# Altium footprint library BV100011_UniversalSlave.PcbLib: 72 footprints (part 3 of 5)
Each footprint in its own frame and in the unit in brackets; x right, y up, seen from the top. Pads: shape width x height; smd on the part's side, far side on the other; paste and mask are expansions set on the pad; w line width, h text height; cw(c..) or ccw(c..) is an arc to the next point about the centre after c.
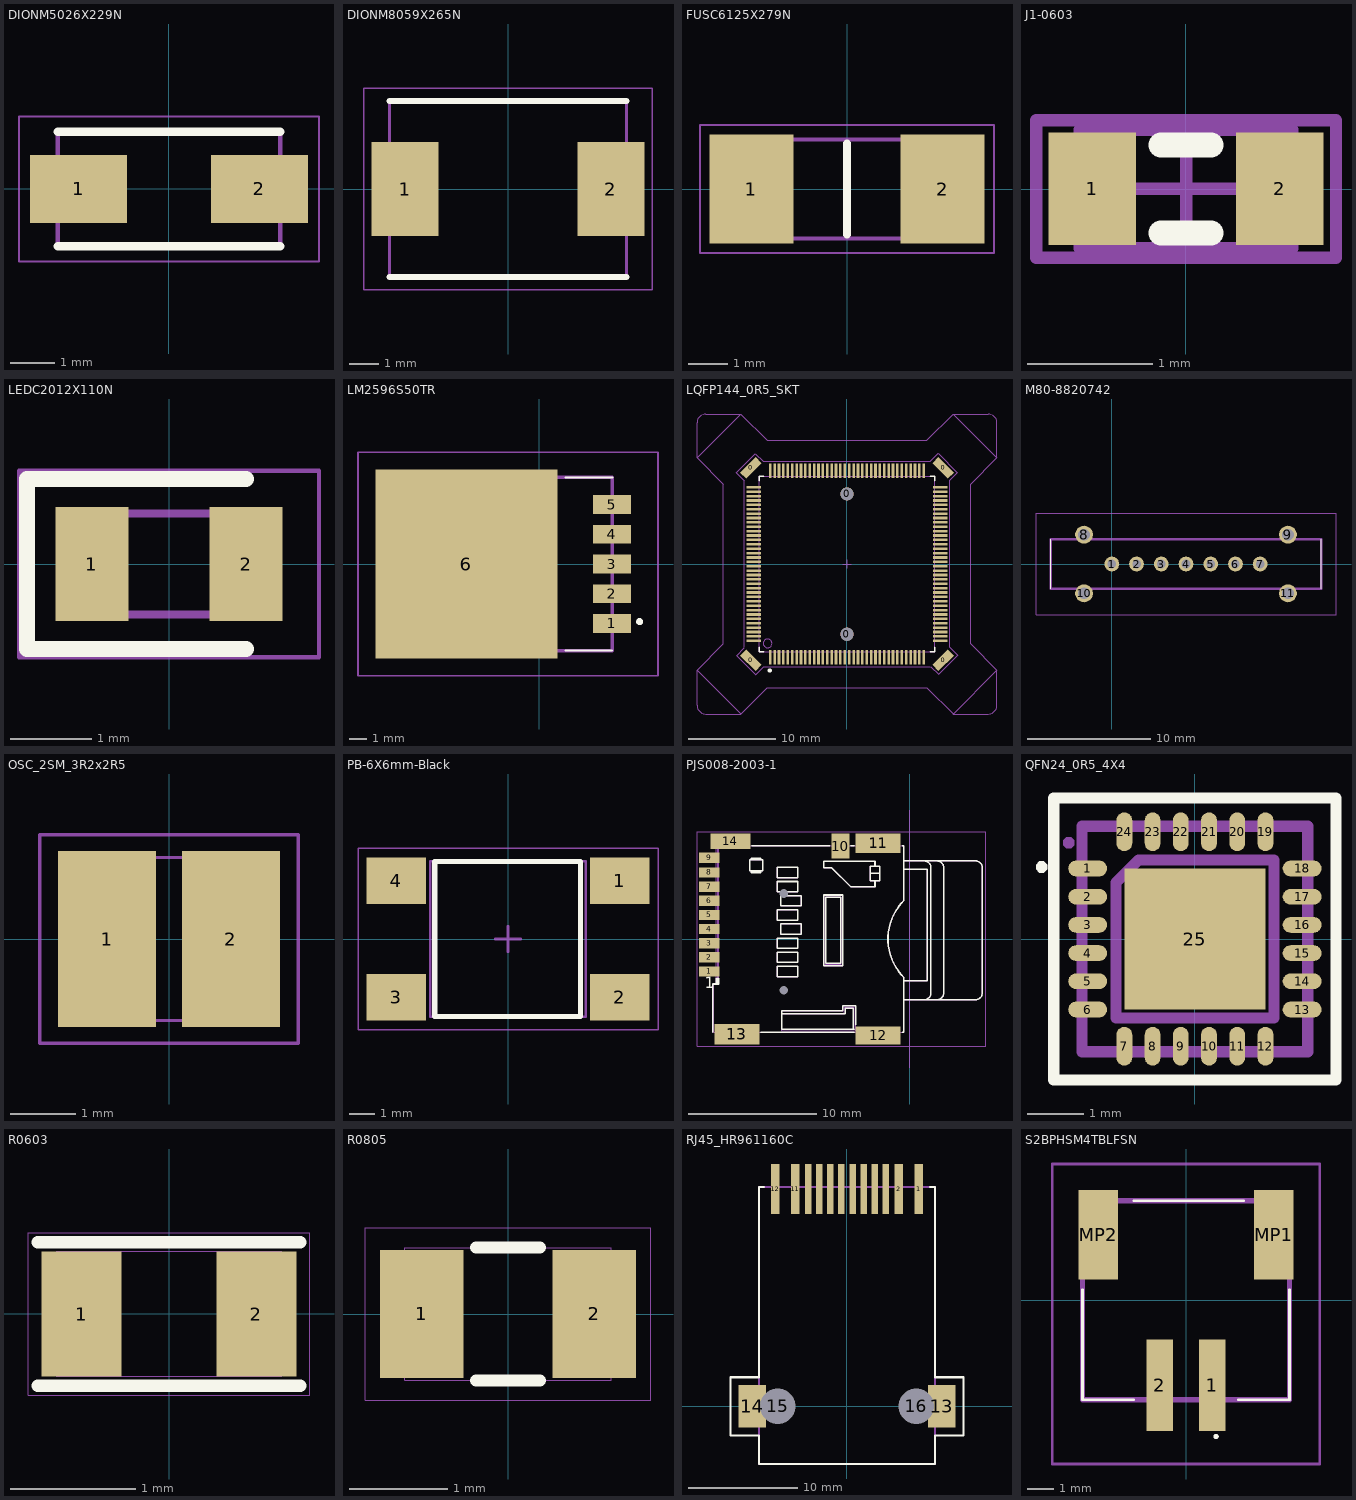
[diagram p2: the footprints below, top view; thin cyan lines are the x and y axes]

## DIONM5026X229N [mm]
pads (2):
  rect 2.2x1.55 smd: 1(-2.05,0) 2(2.05,0)
Top Overlay:
  lines w0.2: -2.52,-1.298 2.52,-1.298 ; -2.52,1.298 2.52,1.298
Mechanical 13:
  lines w0.1: -2.52,-1.298 2.52,-1.298 2.52,1.298 -2.52,1.298 -2.52,-1.298
Mechanical 15:
  lines w0.05: -3.4,-1.645 3.4,-1.645 3.4,1.645 -3.4,1.645 -3.4,-1.645
3D body "SMAJ24CA.stp": height 2.29, standoff 0, extent -2.52,-1.298 2.52,1.298

## DIONM8059X265N [mm]
pads (2):
  rect 2.25x3.15 smd: 1(-3.45,0) 2(3.45,0)
Top Overlay:
  lines w0.2: -3.975,-2.95 3.975,-2.95 ; -3.975,2.95 3.975,2.95
Mechanical 13:
  lines w0.1: -3.975,-2.95 -3.975,2.95 3.975,2.95 3.975,-2.95 -3.975,-2.95
Mechanical 15:
  lines w0.05: -4.825,-3.375 -4.825,3.375 4.825,3.375 4.825,-3.375 -4.825,-3.375
3D body "SM15T33CA.stp": height 2.65, standoff 0, extent -3.975,-2.95 3.975,2.95

## FUSC6125X279N [mm]
pads (2):
  rect 2.15x2.8 smd: 1(-2.455,0) 2(2.455,0)
Top Overlay:
  lines w0.2: 0,-1.17 0,1.17
Mechanical 13:
  lines w0.1: -3.05,-1.27 -3.05,1.27 3.05,1.27 3.05,-1.27 -3.05,-1.27
Mechanical 15:
  lines w0.05: -3.78,-1.65 -3.78,1.65 3.78,1.65 3.78,-1.65 -3.78,-1.65
3D body "0680L0750-05.stp": height 2.79, standoff 0, extent -3.05,-1.27 3.05,1.27

## J1-0603 [mm]
pads (2):
  rect 0.7x0.9 smd: 1(-0.75,0) 2(0.75,0)
Top Overlay:
  lines w0.2: -0.2,-0.35 0.2,-0.35 ; -0.2,0.35 0.2,0.35
Mechanical 13:
  lines w0.1: -0.85,-0.475 -0.85,0.475 0.85,0.475 0.85,-0.475 -0.85,-0.475
Mechanical 15:
  lines w0.1: -0.475,0 0.475,0 ; 0,-0.475 0,0.475 ; -1.2,-0.55 -1.2,0.55 1.2,0.55 1.2,-0.55 -1.2,-0.55
3D body: height 0.9, standoff 0, extent -0.85,-0.475 0.85,0.475

## LEDC2012X110N [mm]
pads (2):
  rect 0.9x1.4 smd: 1(-0.95,0) 2(0.95,0)
Top Overlay:
  lines w0.2: 0.95,-1.05 -1.75,-1.05 -1.75,1.05 0.95,1.05
Mechanical 13:
  lines w0.1: -1,0.208 -0.583,0.625 ; -1,-0.625 -1,0.625 1,0.625 1,-0.625 -1,-0.625
Mechanical 15:
  lines w0.05: -1.85,-1.15 -1.85,1.15 1.85,1.15 1.85,-1.15 -1.85,-1.15

## LM2596S50TR [mm]
pads (6):
  rect 2.16x1.07 smd: 1(4.162,-3.4) 2(4.162,-1.7) 3(4.162,0) 4(4.162,1.7) 5(4.162,3.4)
  rect 10.41x10.8 smd: 6(-4.162,0)
Top Overlay:
  lines w0.1: 1.5,-4.955 4.162,-4.955 ; 1.5,4.955 4.2,4.955
  lines w0.3: 5.7,-3.3 cw(c5.75,-3.3) 5.8,-3.3 cw(c5.75,-3.3) 5.7,-3.3
Mechanical 13:
  lines w0.2: -4.19,-4.955 -4.19,4.955 4.19,4.955 4.19,-4.955 -4.19,-4.955
Mechanical 15:
  lines w0.1: -10.367,-6.4 -10.367,6.4 6.8,6.4 6.8,-6.4 -10.367,-6.4
3D body "LM2596S-5.0_TR.stp": height 4.75, standoff 0, extent -8.326,-4.955 5.135,4.955

## LQFP144_0R5_SKT [mm]
pads (150):
  rect 1x2.5 smd rot 45: 0(-10.96,-10.96) 0(10.96,10.96)
  rect 1x2.5 smd rot 135: 0(-10.96,10.96) 0(10.96,-10.96)
  round 1.5 hole 1.5 unplated: 0(0,-8) 0(0,8)
  rect 0.3x1.65 smd: 1(-8.75,-10.625) 2(-8.25,-10.625) 3(-7.75,-10.625) 4(-7.25,-10.625) 5(-6.75,-10.625) 6(-6.25,-10.625) 7(-5.75,-10.625) 8(-5.25,-10.625) 9(-4.75,-10.625) 10(-4.25,-10.625) 11(-3.75,-10.625) 12(-3.25,-10.625) 13(-2.75,-10.625) 14(-2.25,-10.625) 15(-1.75,-10.625) 16(-1.25,-10.625) 17(-0.75,-10.625) 18(-0.25,-10.625) 19(0.25,-10.625) 20(0.75,-10.625) 21(1.25,-10.625) 22(1.75,-10.625) 23(2.25,-10.625) 24(2.75,-10.625) 25(3.25,-10.625) 26(3.75,-10.625) 27(4.25,-10.625) 28(4.75,-10.625) 29(5.25,-10.625) 30(5.75,-10.625) 31(6.25,-10.625) 32(6.75,-10.625) 33(7.25,-10.625) 34(7.75,-10.625) 35(8.25,-10.625) 36(8.75,-10.625) 73(8.75,10.625) 74(8.25,10.625) 75(7.75,10.625) 76(7.25,10.625) 77(6.75,10.625) 78(6.25,10.625) 79(5.75,10.625) 80(5.25,10.625) 81(4.75,10.625) 82(4.25,10.625) 83(3.75,10.625) 84(3.25,10.625) 85(2.75,10.625) 86(2.25,10.625) 87(1.75,10.625) 88(1.25,10.625) 89(0.75,10.625) 90(0.25,10.625) 91(-0.25,10.625) 92(-0.75,10.625) 93(-1.25,10.625) 94(-1.75,10.625) 95(-2.25,10.625) 96(-2.75,10.625) 97(-3.25,10.625) 98(-3.75,10.625) 99(-4.25,10.625) 100(-4.75,10.625) 101(-5.25,10.625) 102(-5.75,10.625) 103(-6.25,10.625) 104(-6.75,10.625) 105(-7.25,10.625) 106(-7.75,10.625) 107(-8.25,10.625) 108(-8.75,10.625)
  rect 1.65x0.3 smd: 37(10.625,-8.75) 38(10.625,-8.25) 39(10.625,-7.75) 40(10.625,-7.25) 41(10.625,-6.75) 42(10.625,-6.25) 43(10.625,-5.75) 44(10.625,-5.25) 45(10.625,-4.75) 46(10.625,-4.25) 47(10.625,-3.75) 48(10.625,-3.25) 49(10.625,-2.75) 50(10.625,-2.25) 51(10.625,-1.75) 52(10.625,-1.25) 53(10.625,-0.75) 54(10.625,-0.25) 55(10.625,0.25) 56(10.625,0.75) 57(10.625,1.25) 58(10.625,1.75) 59(10.625,2.25) 60(10.625,2.75) 61(10.625,3.25) 62(10.625,3.75) 63(10.625,4.25) 64(10.625,4.75) 65(10.625,5.25) 66(10.625,5.75) 67(10.625,6.25) 68(10.625,6.75) 69(10.625,7.25) 70(10.625,7.75) 71(10.625,8.25) 72(10.625,8.75) 109(-10.625,8.75) 110(-10.625,8.25) 111(-10.625,7.75) 112(-10.625,7.25) 113(-10.625,6.75) 114(-10.625,6.25) 115(-10.625,5.75) 116(-10.625,5.25) 117(-10.625,4.75) 118(-10.625,4.25) 119(-10.625,3.75) 120(-10.625,3.25) 121(-10.625,2.75) 122(-10.625,2.25) 123(-10.625,1.75) 124(-10.625,1.25) 125(-10.625,0.75) 126(-10.625,0.25) 127(-10.625,-0.25) 128(-10.625,-0.75) 129(-10.625,-1.25) 130(-10.625,-1.75) 131(-10.625,-2.25) 132(-10.625,-2.75) 133(-10.625,-3.25) 134(-10.625,-3.75) 135(-10.625,-4.25) 136(-10.625,-4.75) 137(-10.625,-5.25) 138(-10.625,-5.75) 139(-10.625,-6.25) 140(-10.625,-6.75) 141(-10.625,-7.25) 142(-10.625,-7.75) 143(-10.625,-8.25) 144(-10.625,-8.75)
Top Overlay:
  circle w0.25: c-8.812,-12.141 r0.125
  lines w0.2: -10,-9.5 -10,-10 -9.5,-10 ; -10,9.5 -10,10 -9.5,10 ; 9.5,-10 10,-10 10,-9.5 ; 9.5,10 10,10 10,9.5
Mechanical 13:
  circle w0.1: c-9.05,-9.05 r0.5
  lines w0.1: -10,-10 -10,10 10,10 10,-10 -10,-10
  lines w0.127: -17.1,-12.1 -17.1,-16.1 ccw(c-16.1,-16.1) -16.1,-17.1 -12.1,-17.1 ; -16.1,17.1 ccw(c-16.1,16.1) -17.1,16.1 -17.1,12.1 ; -16.1,17.109 -12.1,17.109 -17.1,12.109 -17.1,12.1 ; -14.1,-9.1 -14.1,9.1 -17.1,12.1 ; -14.096,-9.092 -17.096,-12.092 -12.096,-17.092 ; -12.092,17.104 -9.092,14.104 ; -9.1,14.109 9.1,14.109 12.1,17.109 ; 9.092,-14.096 12.092,-17.096 ; 9.1,-14.1 -9.1,-14.1 -12.1,-17.1 ; 12.096,17.092 17.096,12.092 14.096,9.092 ; 14.1,9.1 14.1,-9.1 17.1,-12.1 ; 16.1,17.1 cw(c16.1,16.1) 17.1,16.1 17.1,12.1 ; 16.1,17.109 12.1,17.109 ; -17.1,12.1 -17.1,12.1 ; -12.1,-17.1 -12.1,-17.1 ; 12.1,17.109 12.1,17.109 ; 17.1,-12.1 17.1,-16.1 cw(c16.1,-16.1) 16.1,-17.1 12.1,-17.1 17.1,-12.1 ; 17.1,-12.1 17.1,-12.1
Mechanical 15:
  lines w0.1: -11.7,-9.541 -12.596,-10.437 -10.422,-12.611 -9.511,-11.7 ; -11.7,-9.5 -11.7,9.5 ; -11.7,9.511 -12.611,10.422 -10.437,12.596 -9.541,11.7 ; -9.5,-11.7 9.5,-11.7 ; -9.5,11.7 9.5,11.7 ; -0.5,0 0.5,0 ; 0,-0.5 0,0.5 ; 9.511,11.7 10.422,12.611 12.596,10.437 11.7,9.541 ; 9.541,-11.7 10.437,-12.596 12.611,-10.422 11.7,-9.511 ; 11.7,-9.5 11.7,9.5
3D body: height 7, standoff 0, extent 10.269,-8.852 10.371,-8.648
3D body: height 0.1, standoff 0, extent 10.371,-8.852 10.93,-8.648
3D body: height 0.1, standoff 0, extent 10.371,-8.352 10.93,-8.148
3D body: height 7, standoff 0, extent 10.269,-8.352 10.371,-8.148
3D body: height 0.1, standoff 0, extent 10.371,-7.852 10.93,-7.648
3D body: height 7, standoff 0, extent 10.269,-7.852 10.371,-7.648
3D body: height 0.1, standoff 0, extent 10.371,-7.352 10.93,-7.148
3D body: height 7, standoff 0, extent 10.269,-7.352 10.371,-7.148
3D body: height 0.1, standoff 0, extent 10.371,-6.852 10.93,-6.648
3D body: height 7, standoff 0, extent 10.269,-6.852 10.371,-6.648
3D body: height 0.1, standoff 0, extent 10.371,-6.352 10.93,-6.148
3D body: height 7, standoff 0, extent 10.269,-6.352 10.371,-6.148
3D body: height 0.1, standoff 0, extent 10.371,-6.352 10.93,-6.148
3D body: height 7, standoff 0, extent 10.269,-6.352 10.371,-6.148
3D body: height 0.1, standoff 0, extent 10.371,-5.852 10.93,-5.648
3D body: height 7, standoff 0, extent 10.269,-5.852 10.371,-5.648
3D body: height 0.1, standoff 0, extent 10.371,-5.352 10.93,-5.148
3D body: height 7, standoff 0, extent 10.269,-5.352 10.371,-5.148
3D body: height 0.1, standoff 0, extent 10.371,-4.852 10.93,-4.648
3D body: height 7, standoff 0, extent 10.269,-4.852 10.371,-4.648
3D body: height 0.1, standoff 0, extent 10.371,-4.352 10.93,-4.148
3D body: height 7, standoff 0, extent 10.269,-4.352 10.371,-4.148
3D body: height 0.1, standoff 0, extent 10.371,-3.852 10.93,-3.648
3D body: height 7, standoff 0, extent 10.269,-3.852 10.371,-3.648
3D body: height 0.1, standoff 0, extent 10.371,-3.352 10.93,-3.148
3D body: height 7, standoff 0, extent 10.269,-3.352 10.371,-3.148
3D body: height 0.1, standoff 0, extent 10.371,-2.852 10.93,-2.648
3D body: height 7, standoff 0, extent 10.269,-2.852 10.371,-2.648
3D body: height 0.1, standoff 0, extent 10.371,-2.352 10.93,-2.148
3D body: height 7, standoff 0, extent 10.269,-2.352 10.371,-2.148
3D body: height 0.1, standoff 0, extent 10.371,-1.852 10.93,-1.648
3D body: height 7, standoff 0, extent 10.269,-1.852 10.371,-1.648
3D body: height 0.1, standoff 0, extent 10.371,-1.352 10.93,-1.148
3D body: height 7, standoff 0, extent 10.269,-1.352 10.371,-1.148
3D body: height 0.1, standoff 0, extent 10.371,-0.852 10.93,-0.648
3D body: height 7, standoff 0, extent 10.269,-0.852 10.371,-0.648
3D body: height 0.1, standoff 0, extent 10.371,-0.352 10.93,-0.148
3D body: height 7, standoff 0, extent 10.269,-0.352 10.371,-0.148
3D body: height 0.1, standoff 0, extent 10.371,0.148 10.93,0.352
3D body: height 7, standoff 0, extent 10.269,0.148 10.371,0.352
3D body: height 0.1, standoff 0, extent 10.371,0.648 10.93,0.852
3D body: height 7, standoff 0, extent 10.269,0.648 10.371,0.852
3D body: height 0.1, standoff 0, extent 10.371,1.148 10.93,1.352
3D body: height 7, standoff 0, extent 10.269,1.148 10.371,1.352
3D body: height 0.1, standoff 0, extent 10.371,1.648 10.93,1.852
3D body: height 7, standoff 0, extent 10.269,1.648 10.371,1.852
3D body: height 0.1, standoff 0, extent 10.371,2.148 10.93,2.352
3D body: height 7, standoff 0, extent 10.269,2.148 10.371,2.352
3D body: height 0.1, standoff 0, extent 10.371,2.648 10.93,2.852
3D body: height 7, standoff 0, extent 10.269,2.648 10.371,2.852
3D body: height 0.1, standoff 0, extent 10.371,3.148 10.93,3.352
3D body: height 7, standoff 0, extent 10.269,3.148 10.371,3.352
3D body: height 0.1, standoff 0, extent 10.371,3.648 10.93,3.852
3D body: height 7, standoff 0, extent 10.269,3.648 10.371,3.852
3D body: height 0.1, standoff 0, extent 10.371,4.148 10.93,4.352
3D body: height 7, standoff 0, extent 10.269,4.148 10.371,4.352
3D body: height 0.1, standoff 0, extent 10.371,4.648 10.93,4.852
3D body: height 7, standoff 0, extent 10.269,4.648 10.371,4.852
3D body: height 0.1, standoff 0, extent 10.371,5.148 10.93,5.352
3D body: height 7, standoff 0, extent 10.269,5.148 10.371,5.352
3D body: height 0.1, standoff 0, extent 10.371,5.648 10.93,5.852
3D body: height 7, standoff 0, extent 10.269,5.648 10.371,5.852
3D body: height 0.1, standoff 0, extent 10.371,6.148 10.93,6.352
3D body: height 7, standoff 0, extent 10.269,6.148 10.371,6.352
3D body: height 0.1, standoff 0, extent 10.371,6.648 10.93,6.852
3D body: height 7, standoff 0, extent 10.269,6.648 10.371,6.852
3D body: height 0.1, standoff 0, extent 10.371,7.148 10.93,7.352
3D body: height 7, standoff 0, extent 10.269,7.148 10.371,7.352
3D body: height 0.1, standoff 0, extent 10.371,7.648 10.93,7.852
3D body: height 7, standoff 0, extent 10.269,7.648 10.371,7.852
3D body: height 0.1, standoff 0, extent 10.371,8.148 10.93,8.352
3D body: height 7, standoff 0, extent 10.269,8.148 10.371,8.352
3D body: height 0.1, standoff 0, extent 10.371,8.648 10.93,8.852
3D body: height 7, standoff 0, extent 10.269,8.648 10.371,8.852
3D body: height 7, standoff 0, extent 8.648,10.269 8.852,10.371
3D body: height 0.1, standoff 0, extent 8.648,10.371 8.852,10.93
3D body: height 0.1, standoff 0, extent 8.148,10.371 8.352,10.93
3D body: height 7, standoff 0, extent 8.148,10.269 8.352,10.371
3D body: height 0.1, standoff 0, extent 7.648,10.371 7.852,10.93
3D body: height 7, standoff 0, extent 7.648,10.269 7.852,10.371
3D body: height 0.1, standoff 0, extent 7.148,10.371 7.352,10.93
3D body: height 7, standoff 0, extent 7.148,10.269 7.352,10.371
3D body: height 0.1, standoff 0, extent 6.648,10.371 6.852,10.93
3D body: height 7, standoff 0, extent 6.648,10.269 6.852,10.371
3D body: height 0.1, standoff 0, extent 6.148,10.371 6.352,10.93
3D body: height 7, standoff 0, extent 6.148,10.269 6.352,10.371
3D body: height 0.1, standoff 0, extent 6.148,10.371 6.352,10.93
3D body: height 7, standoff 0, extent 6.148,10.269 6.352,10.371
3D body: height 0.1, standoff 0, extent 5.648,10.371 5.852,10.93
3D body: height 7, standoff 0, extent 5.648,10.269 5.852,10.371
3D body: height 0.1, standoff 0, extent 5.148,10.371 5.352,10.93
3D body: height 7, standoff 0, extent 5.148,10.269 5.352,10.371
3D body: height 0.1, standoff 0, extent 4.648,10.371 4.852,10.93
3D body: height 7, standoff 0, extent 4.648,10.269 4.852,10.371
3D body: height 0.1, standoff 0, extent 4.148,10.371 4.352,10.93
3D body: height 7, standoff 0, extent 4.148,10.269 4.352,10.371
3D body: height 0.1, standoff 0, extent 3.648,10.371 3.852,10.93
3D body: height 7, standoff 0, extent 3.648,10.269 3.852,10.371
3D body: height 0.1, standoff 0, extent 3.148,10.371 3.352,10.93
3D body: height 7, standoff 0, extent 3.148,10.269 3.352,10.371
3D body: height 0.1, standoff 0, extent 2.648,10.371 2.852,10.93
3D body: height 7, standoff 0, extent 2.648,10.269 2.852,10.371
3D body: height 0.1, standoff 0, extent 2.148,10.371 2.352,10.93
3D body: height 7, standoff 0, extent 2.148,10.269 2.352,10.371
3D body: height 0.1, standoff 0, extent 1.648,10.371 1.852,10.93
3D body: height 7, standoff 0, extent 1.648,10.269 1.852,10.371
3D body: height 0.1, standoff 0, extent 1.148,10.371 1.352,10.93
3D body: height 7, standoff 0, extent 1.148,10.269 1.352,10.371
3D body: height 0.1, standoff 0, extent 0.648,10.371 0.852,10.93
3D body: height 7, standoff 0, extent 0.648,10.269 0.852,10.371
3D body: height 0.1, standoff 0, extent 0.148,10.371 0.352,10.93
3D body: height 7, standoff 0, extent 0.148,10.269 0.352,10.371
3D body: height 0.1, standoff 0, extent -0.352,10.371 -0.148,10.93
3D body: height 7, standoff 0, extent -0.352,10.269 -0.148,10.371
3D body: height 0.1, standoff 0, extent -0.852,10.371 -0.648,10.93
3D body: height 7, standoff 0, extent -0.852,10.269 -0.648,10.371
3D body: height 0.1, standoff 0, extent -1.352,10.371 -1.148,10.93
3D body: height 7, standoff 0, extent -1.352,10.269 -1.148,10.371
3D body: height 0.1, standoff 0, extent -1.852,10.371 -1.648,10.93
3D body: height 7, standoff 0, extent -1.852,10.269 -1.648,10.371
3D body: height 0.1, standoff 0, extent -2.352,10.371 -2.148,10.93
3D body: height 7, standoff 0, extent -2.352,10.269 -2.148,10.371
3D body: height 0.1, standoff 0, extent -2.852,10.371 -2.648,10.93
3D body: height 7, standoff 0, extent -2.852,10.269 -2.648,10.371
3D body: height 0.1, standoff 0, extent -3.352,10.371 -3.148,10.93
3D body: height 7, standoff 0, extent -3.352,10.269 -3.148,10.371
3D body: height 0.1, standoff 0, extent -3.852,10.371 -3.648,10.93
3D body: height 7, standoff 0, extent -3.852,10.269 -3.648,10.371
3D body: height 0.1, standoff 0, extent -4.352,10.371 -4.148,10.93
3D body: height 7, standoff 0, extent -4.352,10.269 -4.148,10.371
3D body: height 0.1, standoff 0, extent -4.852,10.371 -4.648,10.93
3D body: height 7, standoff 0, extent -4.852,10.269 -4.648,10.371
3D body: height 0.1, standoff 0, extent -5.352,10.371 -5.148,10.93
3D body: height 7, standoff 0, extent -5.352,10.269 -5.148,10.371
3D body: height 0.1, standoff 0, extent -5.852,10.371 -5.648,10.93
3D body: height 7, standoff 0, extent -5.852,10.269 -5.648,10.371
3D body: height 0.1, standoff 0, extent -6.352,10.371 -6.148,10.93
3D body: height 7, standoff 0, extent -6.352,10.269 -6.148,10.371
3D body: height 0.1, standoff 0, extent -6.852,10.371 -6.648,10.93
3D body: height 7, standoff 0, extent -6.852,10.269 -6.648,10.371
3D body: height 0.1, standoff 0, extent -7.352,10.371 -7.148,10.93
3D body: height 7, standoff 0, extent -7.352,10.269 -7.148,10.371
3D body: height 0.1, standoff 0, extent -7.852,10.371 -7.648,10.93
3D body: height 7, standoff 0, extent -7.852,10.269 -7.648,10.371
3D body: height 0.1, standoff 0, extent -8.352,10.371 -8.148,10.93
3D body: height 7, standoff 0, extent -8.352,10.269 -8.148,10.371
3D body: height 0.1, standoff 0, extent -8.852,10.371 -8.648,10.93
3D body: height 7, standoff 0, extent -8.852,10.269 -8.648,10.371
3D body: height 7, standoff 0, extent -10.371,8.648 -10.269,8.852
3D body: height 0.1, standoff 0, extent -10.93,8.648 -10.371,8.852
3D body: height 0.1, standoff 0, extent -10.93,8.148 -10.371,8.352
3D body: height 7, standoff 0, extent -10.371,8.148 -10.269,8.352
3D body: height 0.1, standoff 0, extent -10.93,7.648 -10.371,7.852
3D body: height 7, standoff 0, extent -10.371,7.648 -10.269,7.852
3D body: height 0.1, standoff 0, extent -10.93,7.148 -10.371,7.352
3D body: height 7, standoff 0, extent -10.371,7.148 -10.269,7.352
3D body: height 0.1, standoff 0, extent -10.93,6.648 -10.371,6.852
3D body: height 7, standoff 0, extent -10.371,6.648 -10.269,6.852
3D body: height 0.1, standoff 0, extent -10.93,6.148 -10.371,6.352
3D body: height 7, standoff 0, extent -10.371,6.148 -10.269,6.352
3D body: height 0.1, standoff 0, extent -10.93,6.148 -10.371,6.352
3D body: height 7, standoff 0, extent -10.371,6.148 -10.269,6.352
3D body: height 0.1, standoff 0, extent -10.93,5.648 -10.371,5.852
3D body: height 7, standoff 0, extent -10.371,5.648 -10.269,5.852
3D body: height 0.1, standoff 0, extent -10.93,5.148 -10.371,5.352
3D body: height 7, standoff 0, extent -10.371,5.148 -10.269,5.352
3D body: height 0.1, standoff 0, extent -10.93,4.648 -10.371,4.852
3D body: height 7, standoff 0, extent -10.371,4.648 -10.269,4.852
3D body: height 0.1, standoff 0, extent -10.93,4.148 -10.371,4.352
3D body: height 7, standoff 0, extent -10.371,4.148 -10.269,4.352
3D body: height 0.1, standoff 0, extent -10.93,3.648 -10.371,3.852
3D body: height 7, standoff 0, extent -10.371,3.648 -10.269,3.852
3D body: height 0.1, standoff 0, extent -10.93,3.148 -10.371,3.352
3D body: height 7, standoff 0, extent -10.371,3.148 -10.269,3.352
3D body: height 0.1, standoff 0, extent -10.93,2.648 -10.371,2.852
3D body: height 7, standoff 0, extent -10.371,2.648 -10.269,2.852
3D body: height 0.1, standoff 0, extent -10.93,2.148 -10.371,2.352
3D body: height 7, standoff 0, extent -10.371,2.148 -10.269,2.352
3D body: height 0.1, standoff 0, extent -10.93,1.648 -10.371,1.852
3D body: height 7, standoff 0, extent -10.371,1.648 -10.269,1.852
3D body: height 0.1, standoff 0, extent -10.93,1.148 -10.371,1.352
3D body: height 7, standoff 0, extent -10.371,1.148 -10.269,1.352
3D body: height 0.1, standoff 0, extent -10.93,0.648 -10.371,0.852
3D body: height 7, standoff 0, extent -10.371,0.648 -10.269,0.852
3D body: height 0.1, standoff 0, extent -10.93,0.148 -10.371,0.352
3D body: height 7, standoff 0, extent -10.371,0.148 -10.269,0.352
3D body: height 0.1, standoff 0, extent -10.93,-0.352 -10.371,-0.148
3D body: height 7, standoff 0, extent -10.371,-0.352 -10.269,-0.148
3D body: height 0.1, standoff 0, extent -10.93,-0.852 -10.371,-0.648
3D body: height 7, standoff 0, extent -10.371,-0.852 -10.269,-0.648
3D body: height 0.1, standoff 0, extent -10.93,-1.352 -10.371,-1.148
3D body: height 7, standoff 0, extent -10.371,-1.352 -10.269,-1.148
3D body: height 0.1, standoff 0, extent -10.93,-1.852 -10.371,-1.648
3D body: height 7, standoff 0, extent -10.371,-1.852 -10.269,-1.648
3D body: height 0.1, standoff 0, extent -10.93,-2.352 -10.371,-2.148
3D body: height 7, standoff 0, extent -10.371,-2.352 -10.269,-2.148
3D body: height 0.1, standoff 0, extent -10.93,-2.852 -10.371,-2.648
3D body: height 7, standoff 0, extent -10.371,-2.852 -10.269,-2.648
3D body: height 0.1, standoff 0, extent -10.93,-3.352 -10.371,-3.148
3D body: height 7, standoff 0, extent -10.371,-3.352 -10.269,-3.148
3D body: height 0.1, standoff 0, extent -10.93,-3.852 -10.371,-3.648
3D body: height 7, standoff 0, extent -10.371,-3.852 -10.269,-3.648
3D body: height 0.1, standoff 0, extent -10.93,-4.352 -10.371,-4.148
3D body: height 7, standoff 0, extent -10.371,-4.352 -10.269,-4.148
3D body: height 0.1, standoff 0, extent -10.93,-4.852 -10.371,-4.648
3D body: height 7, standoff 0, extent -10.371,-4.852 -10.269,-4.648
3D body: height 0.1, standoff 0, extent -10.93,-5.352 -10.371,-5.148
3D body: height 7, standoff 0, extent -10.371,-5.352 -10.269,-5.148
3D body: height 0.1, standoff 0, extent -10.93,-5.852 -10.371,-5.648
3D body: height 7, standoff 0, extent -10.371,-5.852 -10.269,-5.648
3D body: height 0.1, standoff 0, extent -10.93,-6.352 -10.371,-6.148
3D body: height 7, standoff 0, extent -10.371,-6.352 -10.269,-6.148
3D body: height 0.1, standoff 0, extent -10.93,-6.852 -10.371,-6.648
3D body: height 7, standoff 0, extent -10.371,-6.852 -10.269,-6.648
3D body: height 0.1, standoff 0, extent -10.93,-7.352 -10.371,-7.148
3D body: height 7, standoff 0, extent -10.371,-7.352 -10.269,-7.148
3D body: height 0.1, standoff 0, extent -10.93,-7.852 -10.371,-7.648
3D body: height 7, standoff 0, extent -10.371,-7.852 -10.269,-7.648
3D body: height 0.1, standoff 0, extent -10.93,-8.352 -10.371,-8.148
3D body: height 7, standoff 0, extent -10.371,-8.352 -10.269,-8.148
3D body: height 0.1, standoff 0, extent -10.93,-8.852 -10.371,-8.648
3D body: height 7, standoff 0, extent -10.371,-8.852 -10.269,-8.648
3D body: height 7, standoff 0, extent 8.648,-10.371 8.852,-10.269
3D body: height 0.1, standoff 0, extent 8.648,-10.93 8.852,-10.371
3D body: height 7, standoff 0, extent 8.148,-10.371 8.352,-10.269
3D body: height 0.1, standoff 0, extent 8.148,-10.93 8.352,-10.371
3D body: height 7, standoff 0, extent 7.648,-10.371 7.852,-10.269
3D body: height 0.1, standoff 0, extent 7.648,-10.93 7.852,-10.371
3D body: height 7, standoff 0, extent 7.148,-10.371 7.352,-10.269
3D body: height 0.1, standoff 0, extent 7.148,-10.93 7.352,-10.371
3D body: height 7, standoff 0, extent 6.648,-10.371 6.852,-10.269
3D body: height 0.1, standoff 0, extent 6.648,-10.93 6.852,-10.371
3D body: height 7, standoff 0, extent 6.148,-10.371 6.352,-10.269
3D body: height 0.1, standoff 0, extent 6.148,-10.93 6.352,-10.371
3D body: height 7, standoff 0, extent 5.648,-10.371 5.852,-10.269
3D body: height 0.1, standoff 0, extent 5.648,-10.93 5.852,-10.371
3D body: height 7, standoff 0, extent 5.148,-10.371 5.352,-10.269
3D body: height 0.1, standoff 0, extent 5.148,-10.93 5.352,-10.371
3D body: height 7, standoff 0, extent 4.648,-10.371 4.852,-10.269
3D body: height 0.1, standoff 0, extent 4.648,-10.93 4.852,-10.371
3D body: height 7, standoff 0, extent 4.148,-10.371 4.352,-10.269
3D body: height 0.1, standoff 0, extent 4.148,-10.93 4.352,-10.371
3D body: height 7, standoff 0, extent 3.648,-10.371 3.852,-10.269
3D body: height 0.1, standoff 0, extent 3.648,-10.93 3.852,-10.371
3D body: height 7, standoff 0, extent 3.148,-10.371 3.352,-10.269
3D body: height 0.1, standoff 0, extent 3.148,-10.93 3.352,-10.371
3D body: height 7, standoff 0, extent 2.648,-10.371 2.852,-10.269
3D body: height 0.1, standoff 0, extent 2.648,-10.93 2.852,-10.371
3D body: height 7, standoff 0, extent 2.148,-10.371 2.352,-10.269
3D body: height 0.1, standoff 0, extent 2.148,-10.93 2.352,-10.371
3D body: height 7, standoff 0, extent 1.648,-10.371 1.852,-10.269
3D body: height 0.1, standoff 0, extent 1.648,-10.93 1.852,-10.371
3D body: height 7, standoff 0, extent 1.148,-10.371 1.352,-10.269
3D body: height 0.1, standoff 0, extent 1.148,-10.93 1.352,-10.371
3D body: height 7, standoff 0, extent 0.648,-10.371 0.852,-10.269
3D body: height 0.1, standoff 0, extent 0.648,-10.93 0.852,-10.371
3D body: height 7, standoff 0, extent 0.148,-10.371 0.352,-10.269
3D body: height 0.1, standoff 0, extent 0.148,-10.93 0.352,-10.371
3D body: height 7, standoff 0, extent -0.352,-10.371 -0.148,-10.269
3D body: height 0.1, standoff 0, extent -0.352,-10.93 -0.148,-10.371
3D body: height 7, standoff 0, extent -0.852,-10.371 -0.648,-10.269
3D body: height 0.1, standoff 0, extent -0.852,-10.93 -0.648,-10.371
3D body: height 7, standoff 0, extent -1.352,-10.371 -1.148,-10.269
3D body: height 0.1, standoff 0, extent -1.352,-10.93 -1.148,-10.371
3D body: height 7, standoff 0, extent -1.852,-10.371 -1.648,-10.269
3D body: height 0.1, standoff 0, extent -1.852,-10.93 -1.648,-10.371
3D body: height 7, standoff 0, extent -2.352,-10.371 -2.148,-10.269
3D body: height 0.1, standoff 0, extent -2.352,-10.93 -2.148,-10.371
3D body: height 7, standoff 0, extent -2.852,-10.371 -2.648,-10.269
3D body: height 0.1, standoff 0, extent -2.852,-10.93 -2.648,-10.371
3D body: height 7, standoff 0, extent -3.352,-10.371 -3.148,-10.269
3D body: height 0.1, standoff 0, extent -3.352,-10.93 -3.148,-10.371
3D body: height 7, standoff 0, extent -3.852,-10.371 -3.648,-10.269
3D body: height 0.1, standoff 0, extent -3.852,-10.93 -3.648,-10.371
3D body: height 7, standoff 0, extent -4.352,-10.371 -4.148,-10.269
3D body: height 0.1, standoff 0, extent -4.352,-10.93 -4.148,-10.371
3D body: height 7, standoff 0, extent -4.852,-10.371 -4.648,-10.269
3D body: height 0.1, standoff 0, extent -4.852,-10.93 -4.648,-10.371
3D body: height 7, standoff 0, extent -5.352,-10.371 -5.148,-10.269
3D body: height 0.1, standoff 0, extent -5.352,-10.93 -5.148,-10.371
3D body: height 7, standoff 0, extent -5.852,-10.371 -5.648,-10.269
3D body: height 0.1, standoff 0, extent -5.852,-10.93 -5.648,-10.371
3D body: height 7, standoff 0, extent -6.352,-10.371 -6.148,-10.269
3D body: height 0.1, standoff 0, extent -6.352,-10.93 -6.148,-10.371
3D body: height 7, standoff 0, extent -6.352,-10.371 -6.148,-10.269
3D body: height 0.1, standoff 0, extent -6.352,-10.93 -6.148,-10.371
3D body: height 7, standoff 0, extent -6.852,-10.371 -6.648,-10.269
3D body: height 0.1, standoff 0, extent -6.852,-10.93 -6.648,-10.371
3D body: height 7, standoff 0, extent -7.352,-10.371 -7.148,-10.269
3D body: height 0.1, standoff 0, extent -7.352,-10.93 -7.148,-10.371
3D body: height 7, standoff 0, extent -7.852,-10.371 -7.648,-10.269
3D body: height 0.1, standoff 0, extent -7.852,-10.93 -7.648,-10.371
3D body: height 7, standoff 0, extent -8.352,-10.371 -8.148,-10.269
3D body: height 0.1, standoff 0, extent -8.352,-10.93 -8.148,-10.371
3D body: height 0.1, standoff 0, extent -8.852,-10.93 -8.648,-10.371
3D body: height 7, standoff 0, extent -8.852,-10.371 -8.648,-10.269
3D body: height 7, standoff 0, extent 9.931,9.931 11.989,11.989
3D body: height 7, standoff 0, extent 9.931,-11.989 11.989,-9.931
3D body: height 7, standoff 0, extent -11.989,-11.989 -9.931,-9.931
3D body: height 7, standoff 0, extent -11.989,9.931 -9.931,11.989
3D body: height 10, standoff 6.3, extent -17.11,-17.105 17.09,17.095
3D body: height 6, standoff -1, extent -0.595,7.401 0.6,8.599
3D body: height 6, standoff -1, extent -0.595,-8.599 0.6,-7.401
3D body: height 12.4, standoff 12.3, extent -15.231,10.256 -10.251,15.246
3D body: height 12.4, standoff 12.3, extent 10.256,10.251 15.246,15.231
3D body: height 12.4, standoff 12.3, extent -15.246,-15.231 -10.256,-10.251
3D body: height 12.4, standoff 12.3, extent 10.251,-15.246 15.231,-10.256
3D body: height 14.3, standoff 10.3, extent 10.778,10.709 14.757,14.691
3D body: height 14.3, standoff 10.3, extent -14.723,10.759 -10.744,14.742
3D body: height 14.3, standoff 10.3, extent -14.679,-14.767 -10.7,-10.785
3D body: height 14.3, standoff 10.3, extent 10.772,-14.742 14.751,-10.759
3D body: height 10, standoff 0, extent -17.1,12.09 -12.09,17.109
3D body: height 10, standoff 0, extent 12.065,12.09 17.109,17.1
3D body: height 10, standoff 0, extent 12.09,-17.109 17.1,-12.09
3D body: height 10, standoff 0, extent -17.109,-17.1 -12.109,-12.092
3D body: height 12.3, standoff 10.3, extent -17.099,-17.083 0.001,17.121
3D body: height 12.3, standoff 10.3, extent -0.022,-17.083 17.078,17.121

## M80-8820742 [mm]
pads (11):
  round 1.2 hole 0.7: 1(0,0) 2(2,0) 3(4,0) 4(6,0) 5(8,0) 6(10,0) 7(12,0)
  round 1.45 hole 0.95: 8(-2.25,2.375) 9(14.25,2.375) 10(-2.25,-2.375) 11(14.25,-2.375)
Top Overlay:
  lines w0.1: -4.94,-1.99 -4.94,1.99 ; 16.94,-1.99 16.94,1.99
Mechanical 13:
  lines w0.2: -4.94,-1.99 16.94,-1.99 16.94,1.99 -4.94,1.99 -4.94,-1.99
Mechanical 15:
  lines w0.05: -6.14,-4.1 18.14,-4.1 18.14,4.1 -6.14,4.1 -6.14,-4.1
3D body "M80-8820742.stp": height 8.25, standoff -3.4, extent -2.95,-1.775 14.95,2.075

## OSC_2SM_3R2x2R5 [mm]
pads (2):
  rect 1.5x2.7 smd: 1(-0.95,0) 2(0.95,0)
Mechanical 13:
  lines w0.051: -1.6,-1.25 -1.6,1.25 1.6,1.25 1.6,-1.25 -1.6,-1.25
Mechanical 15:
  lines w0.051: -1.981,-1.6 1.981,-1.6 1.981,1.6 -1.981,1.6 -1.981,-1.6
3D body: height 1, standoff 0, extent -1.6,-1.25 1.6,1.25

## PB-6X6mm-Black [mm]
pads (4):
  rect 2.3x1.8 smd: 1(4.325,2.25) 2(4.325,-2.25) 3(-4.325,-2.25) 4(-4.325,2.25)
Top Overlay:
  lines w0.2: -2.831,-3 2.808,-3 2.808,3 -2.831,3 -2.831,-3
Mechanical 13:
  lines w0.1: -3,-3 -3,3 3,3 3,-3 -3,-3
Mechanical 15:
  lines w0.05: -5.8,-3.5 -5.8,3.5 5.8,3.5 5.8,-3.5 -5.8,-3.5
  lines w0.1: -0.5,0 0.5,0 ; 0,-0.5 0,0.5
3D body: height 3.9, standoff 2.3, extent 1.359,-2.956 2.95,-1.362
3D body: height 3.9, standoff 2.3, extent -2.956,-2.951 -1.362,-1.359
3D body: height 3.9, standoff 2.3, extent 1.363,1.359 2.956,2.95
3D body: height 3.9, standoff 2.3, extent -2.951,1.363 -1.359,2.956
3D body: height 10.5, standoff 3.5, extent -1.736,-1.746 1.75,1.747
3D body: height 3.5, standoff 0, extent -3,-3 3,3

## PJS008-2003-1 [mm]
pads (16):
  rect 1.6x0.8 smd paste+0 mask+0.05: 1(-15.6,-2.525) 2(-15.6,-1.425) 3(-15.6,-0.325) 4(-15.6,0.775) 5(-15.6,1.875) 6(-15.6,2.975) 7(-15.6,4.075) 8(-15.6,5.175) 9(-15.6,6.325)
  rect 1.4x1.95 smd paste+0 mask+0.05: 10(-5.4,7.225)
  rect 3.5x1.5 smd paste+0 mask+0.05: 11(-2.45,7.45)
  rect 3.5x1.4 smd paste+0 mask+0.05: 12(-2.45,-7.5)
  rect 3.5x1.6 smd paste+0 mask+0.05: 13(-13.45,-7.4)
  rect 3.1x1.2 smd paste+0 mask+0.05: 14(-13.95,7.6)
  round 0 hole 0.65 unplated mask+0.05: NPTH1(-9.8,-4)
  round 0 hole 0.7 unplated mask+0.05: NPTH2(-9.8,3.55)
Top Overlay:
  lines w0.12: -15.325,-7.25 -15.325,-3.5 -14.85,-3.5 -14.85,-3.05 ; -15.05,-3.5 -15.05,-3.05 ; -14.95,-3.5 -14.95,-3.05 ; -12.325,5.3 -12.325,5.175 -11.575,5.175 -11.575,5.3 ; -12.325,6.175 -12.325,6.3 -11.575,6.3 -11.575,6.175 ; -12.275,7.25 -6.225,7.25 ; -11.575,-7.25 -4.325,-7.25 ; -9.95,-5.825 -5.025,-5.825 -5.025,-5.375 -4.375,-5.375 -4.375,-7.025 ; -4.575,7.25 -4.325,7.25 ; -4.325,-7.025 -9.95,-7.025 -9.95,-5.575 -5.2,-5.575 -5.2,-5.2 -4.2,-5.2 -4.2,-6.675 ; -3.075,5.113 -2.325,5.113 ; -2.7,4.55 -2.7,4.05 -4.575,4.05 -6.075,5.55 -6.7,5.55 -6.7,6.05 -2.7,6.05 -2.7,5.675 ; -0.575,-7.25 -0.45,-7.25 -0.45,-3 cw(c2.55,0) -0.45,3 -0.45,7.25 -0.575,7.25 ; -0.45,-4.725 1.125,-4.725 ; -0.45,-3.25 1.35,-3.25 1.35,5.425 -0.45,5.425 ; -0.45,6.075 1.125,6.075 ; 2.125,-4.725 ccw(c2.125,-4.2) 2.65,-4.2 2.65,5.55 ccw(c2.125,5.55) 2.125,6.075 ; 1.125,-4.725 ccw(c1.125,-4.2) 1.65,-4.2 1.65,5.4 1.65,5.55 ccw(c1.125,5.55) 1.125,6.075 ; 1.125,-4.725 5.125,-4.725 ccw(c5.125,-4.2) 5.65,-4.2 5.65,5.55 ccw(c5.125,5.55) 5.125,6.075 1.125,6.075 ; 1.125,-4.725 1.125,-4.725 ; 1.125,6.075 1.125,6.075 ; -12.45,5.3 -12.45,6.175 -11.45,6.175 -11.45,5.3 -12.45,5.3 ; -10.3,-2.925 -8.7,-2.925 -8.7,-2.125 -10.3,-2.125 -10.3,-2.925 ; -10.3,-1.825 -10.3,-1.025 -8.7,-1.025 -8.7,-1.825 -10.3,-1.825 ; -10.3,-0.725 -10.3,0.075 -8.7,0.075 -8.7,-0.725 -10.3,-0.725 ; -10.3,1.475 -10.3,2.275 -8.7,2.275 -8.7,1.475 -10.3,1.475 ; -10.3,3.675 -10.3,4.475 -8.7,4.475 -8.7,3.675 -10.3,3.675 ; -10.3,4.775 -10.3,5.575 -8.7,5.575 -8.7,4.775 -10.3,4.775 ; -10.05,0.375 -10.05,1.175 -8.45,1.175 -8.45,0.375 -10.05,0.375 ; -10.05,2.575 -10.05,3.375 -8.45,3.375 -8.45,2.575 -10.05,2.575 ; -6.7,-2.075 -5.2,-2.075 -5.2,3.425 -6.7,3.425 -6.7,-2.075 ; -6.525,-1.9 -5.375,-1.9 -5.375,3.25 -6.525,3.25 -6.525,-1.9 ; -3.075,4.55 -2.325,4.55 -2.325,5.675 -3.075,5.675 -3.075,4.55
  text "1" at -15.95,-4.15 h1.5
Mechanical 4:
  drawing of 160 lines, arcs and shapes, not listed
  text "'.Designator'" at -5.5,-0.5 h0.75
  text "10" at -6.075,6.15 h1.5
  text "9" at -14.5,5.825 h1.5
  text "1" at -14.45,-3 h1.5
Mechanical 7:
  lines w0.01: 0,-10 0,10
  text "PCB" at 0.075,10 h1
  text "EDGE" at 0.075,-7.575 h1
3D body "PJS008-2003.STEP": height 2, standoff 0, extent -15.035,-7.175 -0.835,7.424

## QFN24_0R5_4X4 [mm]
pads (25):
  oval 0.69x0.28 smd: 1(-1.9,1.25) 2(-1.9,0.75) 3(-1.9,0.25) 4(-1.9,-0.25) 5(-1.9,-0.75) 6(-1.9,-1.25) 13(1.9,-1.25) 14(1.9,-0.75) 15(1.9,-0.25) 16(1.9,0.25) 17(1.9,0.75) 18(1.9,1.25)
  oval 0.28x0.69 smd: 7(-1.25,-1.9) 8(-0.75,-1.9) 9(-0.25,-1.9) 10(0.25,-1.9) 11(0.75,-1.9) 12(1.25,-1.9) 19(1.25,1.9) 20(0.75,1.9) 21(0.25,1.9) 22(-0.25,1.9) 23(-0.75,1.9) 24(-1.25,1.9)
  rect 2.5x2.5 smd: 25(0,0)
Top Overlay:
  region: -2.716,1.176 -2.757,1.176 -2.816,1.235 -2.816,1.317 -2.757,1.376 -2.716,1.376 -2.675,1.376 -2.616,1.317 -2.616,1.235 -2.675,1.176
  lines w0.2: -2.5,-2.5 2.5,-2.5 2.5,2.5 -2.5,2.5 -2.5,-2.5
Top Paste:
  region: 0.2,0.2 1.2,0.2 1.2,1.2 0.2,1.2
  region: -0.2,0.2 -0.2,1.2 -1.2,1.2 -1.2,0.2
  region: -0.2,-0.2 -1.2,-0.2 -1.2,-1.2 -0.2,-1.2
  region: 0.2,-0.2 0.2,-1.2 1.2,-1.2 1.2,-0.2
Top Solder:
  region: 1.44,-2.295 -1.44,-2.295 -1.44,-1.5 1.44,-1.5
  region: 2.295,1.44 2.295,-1.44 1.5,-1.44 1.5,1.44
  region: -1.439,2.295 1.441,2.295 1.441,1.5 -1.439,1.5
  region: -2.295,-1.44 -2.295,1.44 -1.5,1.44 -1.5,-1.44
Mechanical 4:
  region: -2.236,1.606 -2.277,1.606 -2.336,1.665 -2.336,1.747 -2.277,1.806 -2.236,1.806 -2.195,1.806 -2.136,1.747 -2.136,1.665 -2.195,1.606
  lines w0.2: -2,-2 -2,2 2,2 2,-2 -2,-2 ; -1.4,-1.4 -1.4,1 -1,1.4 1.4,1.4 1.4,-1.4 -1.4,-1.4

## R0603 [mm]
pads (2):
  rect 0.64x1 smd mask+0.05: 1(-0.7,0) 2(0.7,0)
Top Overlay:
  lines w0.1: -1.05,-0.575 1.05,-0.575 ; -1.05,0.575 1.05,0.575
Mechanical 14:
  lines w0.01: -0.9,-0.5 0.9,-0.5 0.9,0.5 -0.9,0.5 -0.9,-0.5
Mechanical 16:
  lines w0.01: -1.125,-0.65 -1.125,0.65 1.125,0.65 1.125,-0.65 -1.125,-0.65
3D body: height 0.55, standoff 0, extent -0.905,-0.505 0.905,0.505
3D body "R0603.STEP": height 0.56, standoff 0, extent -0.85,-0.4 0.85,0.4

## R0805 [mm]
pads (2):
  rect 0.85x1.3 smd mask+0.05: 1(-0.875,0) 2(0.875,0)
Top Overlay:
  lines w0.12: -0.325,-0.675 0.325,-0.675 ; -0.325,0.675 0.325,0.675
Mechanical 14:
  lines w0.01: -1.05,-0.675 1.05,-0.675 1.05,0.675 -1.05,0.675 -1.05,-0.675
Mechanical 16:
  lines w0.01: -1.45,-0.875 -1.45,0.875 1.45,0.875 1.45,-0.875 -1.45,-0.875
3D body: height 0.65, standoff 0, extent -1.055,-0.68 1.055,0.68
3D body "R0805.STEP": height 0.47, standoff 0, extent -1,-0.626 1,0.626

## RJ45_HR961160C [mm]
pads (16):
  rect 0.8x4.6 smd: 1(6.579,19.914) 2(4.75,19.914) 11(-4.75,19.914) 12(-6.579,19.914)
  rect 0.6x4.6 smd: 3(3.556,19.914) 4(2.54,19.914) 5(1.524,19.914) 6(0.508,19.914) 7(-0.508,19.914) 8(-1.524,19.914) 9(-2.54,19.914) 10(-3.556,19.914)
  rect 2.5x3.9 smd: 13(8.687,0) 14(-8.687,0)
  round 2.5 hole 3.25 unplated: 15(-6.35,0) 16(6.35,0)
Top Overlay:
  lines w0.2: -7.62,20.117 -8.052,20.117 -8.052,2.667 -10.668,2.667 -10.668,-2.667 -8.052,-2.667 -8.052,-5.283 8.052,-5.283 8.052,-2.667 10.668,-2.667 10.668,2.667 8.052,2.667 8.052,20.117 7.62,20.117
  text ".Designator" at -8.433,7.645 h1.5
Bottom Overlay:
  lines w0.2: -8.052,-3.436 -8.052,-3.836 -7.552,-3.836 ; -8.052,-3.067 -8.052,-2.667 ; -8.052,-2.217 -8.052,-1.717 ; -8.052,-1.163 -8.052,-0.663 ; -8.052,-0.109 -8.052,0.391 ; -8.052,0.945 -8.052,1.445 ; -8.052,1.999 -8.052,2.499 ; -8.052,3.018 -8.052,3.518 ; -8.052,4.092 -8.052,4.592 ; -8.052,5.167 -8.052,5.667 ; -8.052,6.241 -8.052,6.741 ; -8.052,7.315 -8.052,7.815 ; -8.052,8.389 -8.052,8.889 ; -8.052,9.464 -8.052,9.964 ; -8.052,10.538 -8.052,11.038 ; -8.052,11.612 -8.052,12.112 ; -8.052,12.686 -8.052,13.186 ; -8.052,13.761 -8.052,14.261 ; -8.052,14.835 -8.052,15.335 ; -8.052,15.909 -8.052,16.409 ; -8.052,16.983 -8.052,17.483 ; -8.052,18.058 -8.052,18.558 ; -8.052,19.132 -8.052,19.632 ; -8.052,19.717 -8.052,20.117 -7.552,20.117 -7.052,20.117 ; -7.102,-3.836 -6.602,-3.836 ; -6.478,20.117 -5.978,20.117 ; -6.048,-3.836 -5.548,-3.836 ; -5.351,20.117 -4.851,20.117 ; -4.994,-3.836 -4.494,-3.836 ; -4.225,20.117 -3.725,20.117 ; -3.939,-3.836 -3.439,-3.836 ; -3.098,20.117 -2.598,20.117 ; -2.885,-3.836 -2.385,-3.836 ; -1.972,20.117 -1.472,20.117 ; -1.831,-3.836 -1.331,-3.836 ; -0.845,20.117 -0.345,20.117 ; -0.777,-3.836 -0.277,-3.836 ; 0.277,-3.836 0.777,-3.836 ; 0.281,20.117 0.781,20.117 ; 1.331,-3.836 1.831,-3.836 ; 1.408,20.117 1.908,20.117 ; 2.385,-3.836 2.885,-3.836 ; 2.534,20.117 3.034,20.117 ; 3.439,-3.836 3.939,-3.836 ; 3.661,20.117 4.161,20.117 ; 4.494,-3.836 4.994,-3.836 ; 4.787,20.117 5.287,20.117 ; 5.548,-3.836 6.048,-3.836 ; 5.913,20.117 6.413,20.117 ; 6.602,-3.836 7.102,-3.836 ; 6.988,20.117 7.488,20.117 ; 7.552,-3.836 8.052,-3.836 8.052,-3.436 ; 7.552,20.117 8.052,20.117 8.052,19.717 ; 8.052,-3.067 8.052,-2.667 ; 8.052,-2.217 8.052,-1.717 ; 8.052,-1.163 8.052,-0.663 ; 8.052,-0.109 8.052,0.391 ; 8.052,0.945 8.052,1.445 ; 8.052,1.999 8.052,2.499 ; 8.052,3.018 8.052,3.518 ; 8.052,4.092 8.052,4.592 ; 8.052,5.167 8.052,5.667 ; 8.052,6.241 8.052,6.741 ; 8.052,7.315 8.052,7.815 ; 8.052,8.389 8.052,8.889 ; 8.052,9.464 8.052,9.964 ; 8.052,10.538 8.052,11.038 ; 8.052,11.612 8.052,12.112 ; 8.052,12.686 8.052,13.186 ; 8.052,13.761 8.052,14.261 ; 8.052,14.835 8.052,15.335 ; 8.052,15.909 8.052,16.409 ; 8.052,16.983 8.052,17.483 ; 8.052,18.058 8.052,18.558 ; 8.052,19.132 8.052,19.632
Mechanical 4:
  region: 8.052,-1.27 9.423,-1.27 9.423,1.245 8.052,1.245
  region: -9.423,-1.295 -8.052,-1.295 -8.052,1.219 -9.423,1.219
  lines w0.2: -6.579,20.193 -6.579,21.717 ; -4.75,20.193 -4.75,21.717 ; -3.556,20.193 -3.556,21.717 ; -2.54,20.193 -2.54,21.717 ; -1.524,20.193 -1.524,21.717 ; -0.508,20.193 -0.508,21.717 ; 0.508,20.193 0.508,21.717 ; 1.524,20.193 1.524,21.717 ; 2.54,20.193 2.54,21.717 ; 3.556,20.193 3.556,21.717 ; 4.75,20.193 4.75,21.717 ; 6.579,20.193 6.579,21.717 ; -8.052,-5.283 -8.052,20.117 8.052,20.117 8.052,-5.283 -8.052,-5.283
  text ".Designator" at -0.611,-0.186 h1

## S2BPHSM4TBLFSN [mm]
pads (4):
  rect 1x3.5 smd: 1(1,-3.25) 2(-1,-3.25)
  rect 1.5x3.4 smd: MP1(3.35,2.5) MP2(-3.35,2.5)
Top Overlay:
  lines w0.1: -3.95,0.4 -3.95,-3.8 -2,-3.8 ; -2,3.8 2.2,3.8 ; 2,-3.8 3.95,-3.8 3.95,0.4 ; 1.1,-5.2 cw(c1.15,-5.2) 1.2,-5.2 cw(c1.15,-5.2) 1.1,-5.2
Mechanical 13:
  lines w0.2: -3.95,-3.8 3.95,-3.8 3.95,3.8 -3.95,3.8 -3.95,-3.8
Mechanical 15:
  lines w0.1: -5.1,-6.25 5.1,-6.25 5.1,5.2 -5.1,5.2 -5.1,-6.25
3D body "S2B-PH-SM4-TB_LF__SN_.stp": height 6.7, standoff 0, extent -3.95,-4.9 3.95,4.05